# EAGLE library part 25LC512 (library ICs)
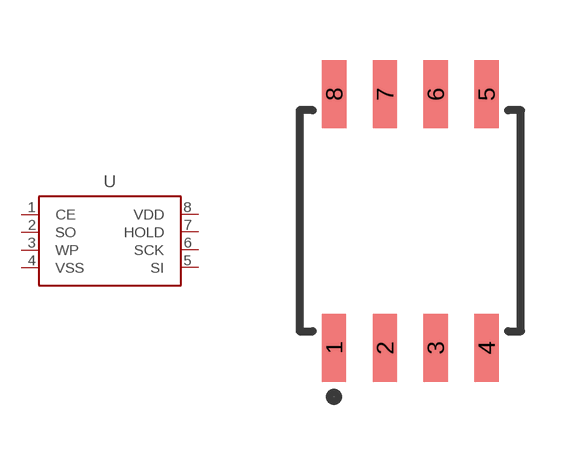
[diagram p5: symbol with the pads of SOIC-8; footprint SOIC-8]

Designator prefix -

## 25LC512 (VALUE: 512kB)  [SOIC-8]
1  CE
2  SO
3  WP
4  VSS  pwr
5  SI
6  SCK
7  HOLD
8  VDD  pwr

## Footprint SOIC-8 (pad centres in mm)
8-Pin SOIC 208-mil
smd 0.6 x 1.7: 1 -1.905,-3.175
smd 0.61 x 1.702: 2 -0.635,-3.175; 3 0.635,-3.175; 4 1.905,-3.175; 5 1.905,3.175; 6 0.635,3.175; 7 -0.635,3.175; 8 -1.905,3.175